# EAGLE library part ICE40UP5K_QFN48 (library dadamachines)
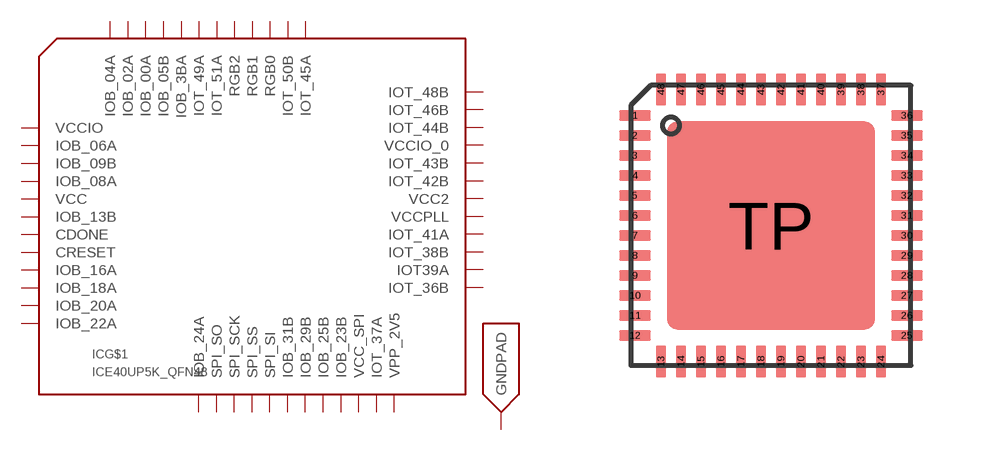
[diagram p13: symbol with the pads of QFN48-PAD; footprint QFN48-PAD]

Designator prefix IC; gates G$1=ICE40UP5K G$2=GNDPAD

## ICE40UP5K_QFN48  [QFN48-PAD]
1  G$1:VCCIO  pwr
2  G$1:IOB_06A
3  G$1:IOB_09B
4  G$1:IOB_08A
5  G$1:VCC  pwr
6  G$1:IOB_13B
7  G$1:CDONE
8  G$1:CRESET
9  G$1:IOB_16A
10  G$1:IOB_18A
11  G$1:IOB_20A
12  G$1:IOB_22A
13  G$1:IOB_24A
14  G$1:SPI_SO
15  G$1:SPI_SCK
16  G$1:SPI_SS
17  G$1:SPI_SI
18  G$1:IOB_31B
19  G$1:IOB_29B
20  G$1:IOB_25B
21  G$1:IOB_23B
22  G$1:VCC_SPI
23  G$1:IOT_37A
24  G$1:VPP_2V5  pwr
25  G$1:IOT_36B
26  G$1:IOT39A
27  G$1:IOT_38B
28  G$1:IOT_41A
29  G$1:VCCPLL  pwr
30  G$1:VCC2  pwr
31  G$1:IOT_42B
32  G$1:IOT_43B
33  G$1:VCCIO_0  pwr
34  G$1:IOT_44B
35  G$1:IOT_46B
36  G$1:IOT_48B
37  G$1:IOT_45A
38  G$1:IOT_50B
39  G$1:RGB0
40  G$1:RGB1
41  G$1:RGB2
42  G$1:IOT_51A
43  G$1:IOT_49A
44  G$1:IOB_3BA
45  G$1:IOB_05B
46  G$1:IOB_00A
47  G$1:IOB_02A
48  G$1:IOB_04A
TP  G$2:GNDPAD  pwr

## Footprint QFN48-PAD (pad centres in mm)
smd 0.8 x 0.26: 1 -3.4,2.75; 2 -3.4,2.25; 3 -3.4,1.75; 4 -3.4,1.25; 5 -3.4,0.75; 6 -3.4,0.25; 7 -3.4,-0.25; 8 -3.4,-0.75; 9 -3.4,-1.25; 10 -3.4,-1.75; 11 -3.4,-2.25; 12 -3.4,-2.75; 25 3.4,-2.75; 26 3.4,-2.25; 27 3.4,-1.75; 28 3.4,-1.25; 29 3.4,-0.75; 30 3.4,-0.25; 31 3.4,0.25; 32 3.4,0.75; 33 3.4,1.25; 34 3.4,1.75; 35 3.4,2.25; 36 3.4,2.75
smd 0.26 x 0.8: 13 -2.75,-3.4; 14 -2.25,-3.4; 15 -1.75,-3.4; 16 -1.25,-3.4; 17 -0.75,-3.4; 18 -0.25,-3.4; 19 0.25,-3.4; 20 0.75,-3.4; 21 1.25,-3.4; 22 1.75,-3.4; 23 2.25,-3.4; 24 2.75,-3.4; 37 2.75,3.4; 38 2.25,3.4; 39 1.75,3.4; 40 1.25,3.4; 41 0.75,3.4; 42 0.25,3.4; 43 -0.25,3.4; 44 -0.75,3.4; 45 -1.25,3.4; 46 -1.75,3.4; 47 -2.25,3.4; 48 -2.75,3.4
smd 5.2 x 5.2: TP 0,0